# EAGLE library part CH340N (library bt_communication)
CH340N USB to UART Bridge Controller CH340 is a USB converter chip, which converts USB to serial UART interface or to printer interface. In UART mode, CH340 provides common MODEM interface signals, to expand UART interface of computer or upgrade common serial communication devices to USB directly. For more information about converting USB to printer interface, please refer to the datasheet CH340DS2. Datasheet: CH340N.pdf <http://wch-ic.com/products/CH340.html>
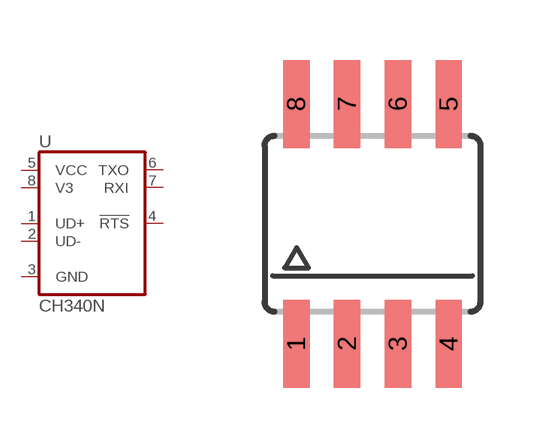
[diagram p2: symbol with the pads of SOIC8N; footprint SOIC8N]

Designator prefix U

## CH340N  [SOIC8N]
1  UD+
2  UD-
3  GND
4  !RTS
5  VCC
6  TXO
7  RXI
8  V3

## Footprint SOIC8N (pad centres in mm)
smd 0.66 x 2.2: 1 -1.905,-3; 2 -0.635,-3; 3 0.635,-3; 4 1.905,-3; 5 1.905,3; 6 0.635,3; 7 -0.635,3; 8 -1.905,3